# Altium schematic symbol library ap-pam.SchLib: 6 symbols
Pins are listed as number, name and electrical type; pins without a type are passive.

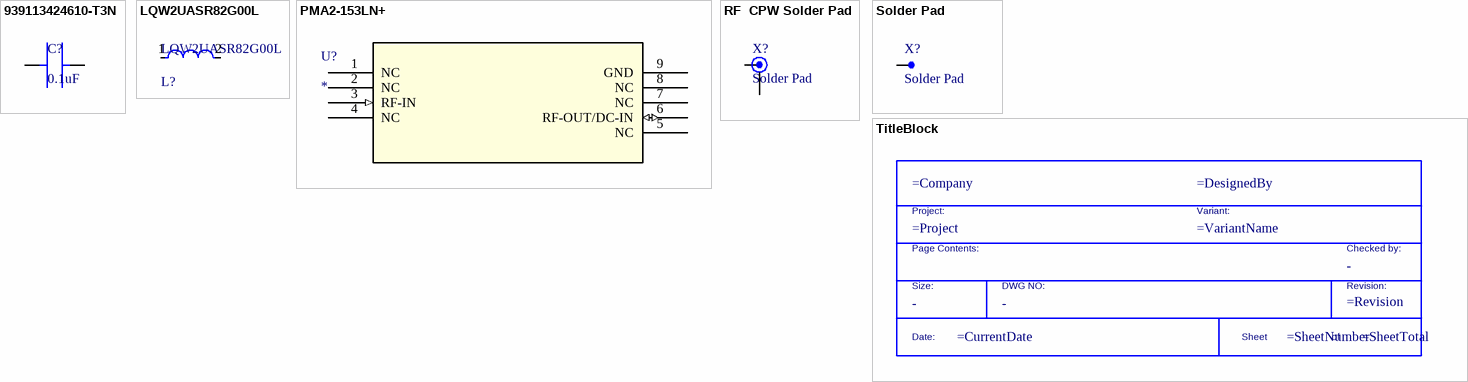
[diagram p0: symbols 939113424610-T3N to TitleBlock]

## 939113424610-T3N
designator C?, comment 0.1uF
CAP SILICON 0.1UF 15% 11V 0402; Manufacturer: Murata; Manufacturer Part Number: 939113424610-T3N; Supplier: Avnet; Supplier Part Number: 939113424610-T3N; RoHS: No; Category: Capacitors; Pricing: 1000=7.905, 2000=7.719, 4000=7.533, 6000=7.347, 8000=7.161 (USD)
footprint C0402
pins: 1, 2

## LQW2UASR82G00L
designator L?
Wire Wound RF Inductor 820nH ±2% 400mA 1.61Ω 1008 (2520); Resistance: 1.61R; Self Resonant Frequency: 350MHz; Shielding: Unshielded; Test Frequency: 25MHz; Tolerance: 2%; Width: 0.096inch; Case/Package: 1008; Resistor Type: Wirewound; Inductance: 820nH; Mount: Surface Mount; Package Quantity: 2000; Min Operating Temperature: -55°C; Current Rating: 400mA; DC Resistance (DCR): 1.61R; Length: 0.103inch; Height - Seated (Max): 0.08inch; Max Operating Temperature: 125°C; Packaging: Tape and Reel
footprint FP-LQW2UAS_00-MFG
pins: 1, 2

## PMA2-153LN+
designator U?
No Description Available; Mfr_Name: Mini Circuits; RefDes: RefDes; Type: Type
footprint MC1631-1_MNC
pins: 1 NC, 2 NC, 3 RF-IN (in), 4 NC, 5 NC, 6 RF-OUT/DC-IN (io), 7 NC, 8 NC, 9 GND (power)

## RF  CPW Solder Pad
designator X?, comment Solder Pad
Solder pad for RF Coplanar Waveguide Rogers 4350B Thickness 0.020" Copper 1oz
footprint CPW Edge Connector
pins: 1, 2, 3

## Solder Pad
designator X?
Pad to solder wires to
footprint Solder Pad
pins: 1

## TitleBlock
designator *  (value not drawn)  (graphical)
Standard Title Block; DWG NO: -; Size: -; Checked by: -
text: Project:; Variant:; Page Contents:; Checked by:; Size:; DWG NO:; Revision:; Date:; Sheet; of